# Altium footprint library PcbLib.PcbLib: 15 footprints
Each footprint in its own frame and in the unit in brackets; x right, y up, seen from the top. Pads: shape width x height; smd on the part's side, far side on the other; paste and mask are expansions set on the pad; w line width, h text height; cw(c..) or ccw(c..) is an arc to the next point about the centre after c.
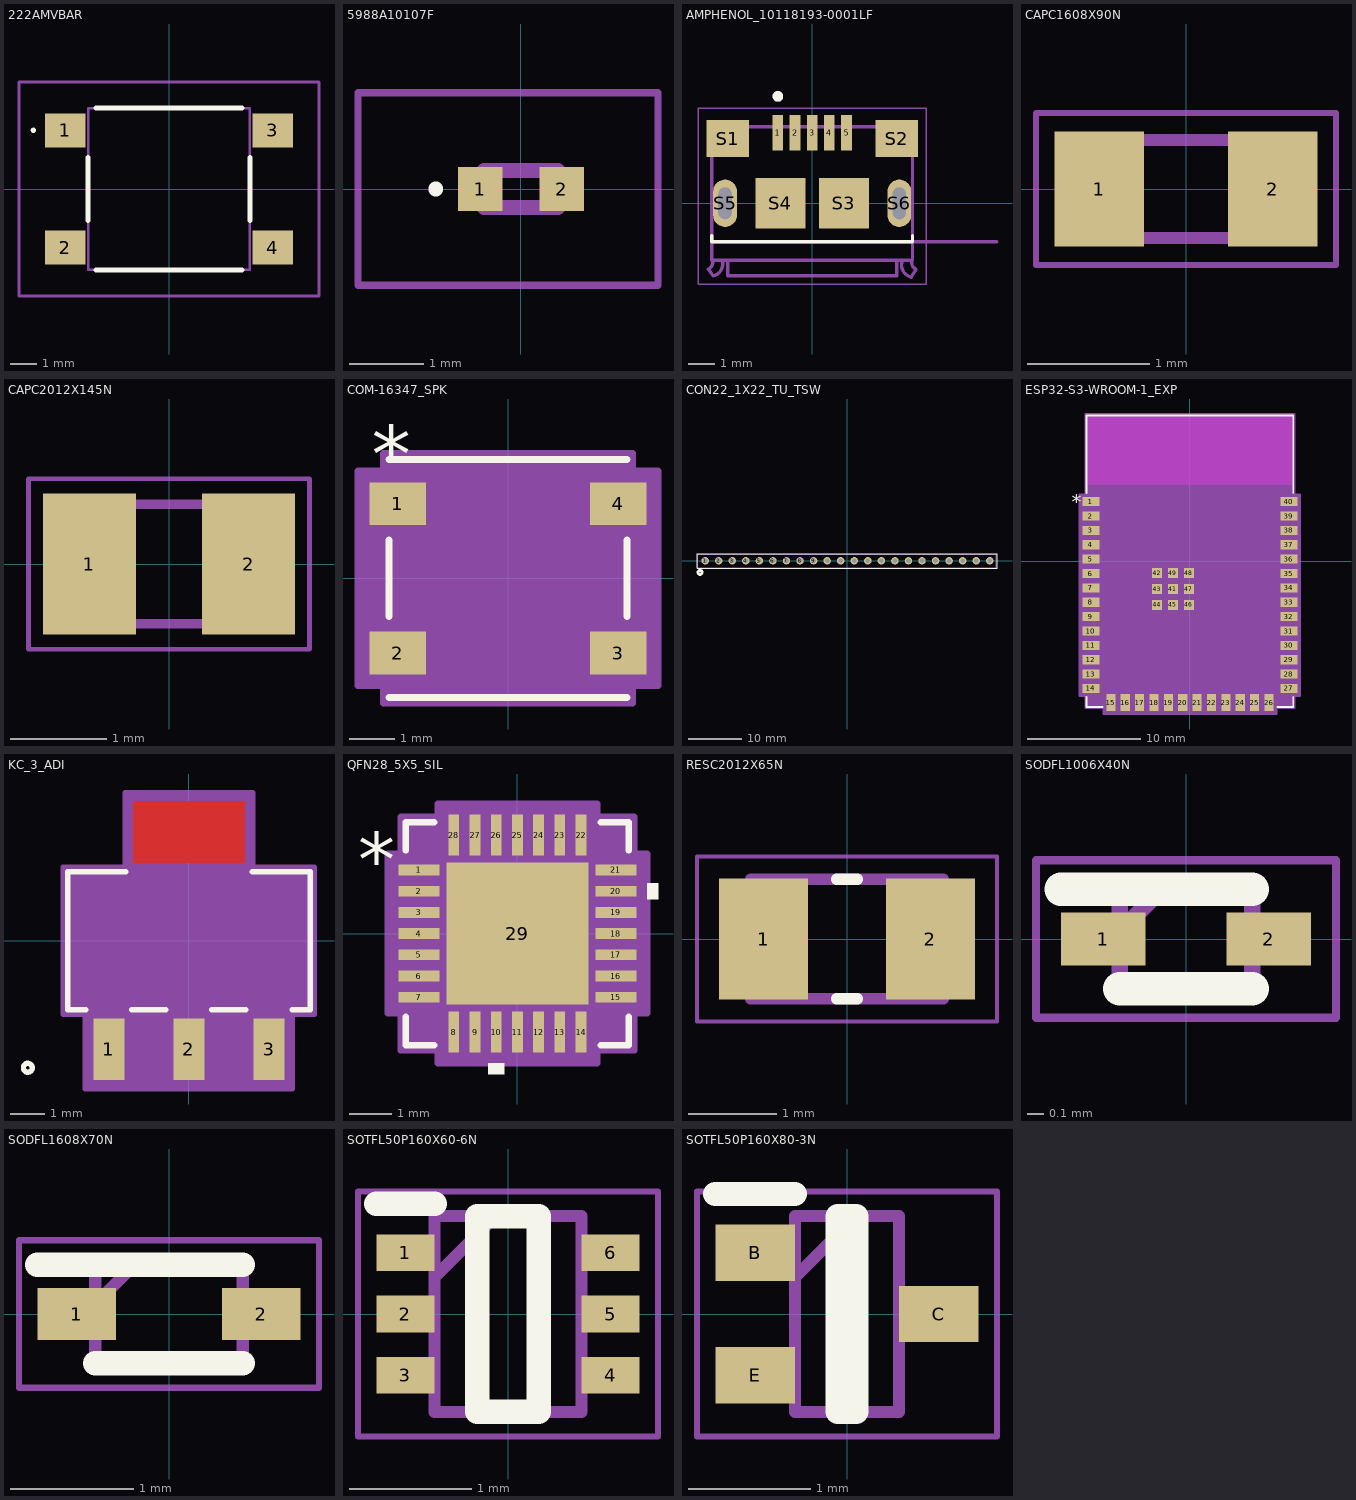
[diagram p0: the footprints below, top view; thin cyan lines are the x and y axes]

## 222AMVBAR [mm]
pads (4):
  rect 1.55x1.3 smd: 1(-3.975,2.25) 2(-3.975,-2.25) 3(3.975,2.25) 4(3.975,-2.25)
Top Overlay:
  lines w0.1: -5.2,2.2 ccw(c-5.2,2.25) -5.2,2.3 ccw(c-5.2,2.25) -5.2,2.2
  lines w0.2: -3.1,-1.2 -3.1,1.2 ; -2.8,-3.1 2.8,-3.1 ; -2.8,3.1 2.8,3.1 ; 3.1,-1.2 3.1,1.2
Mechanical 15:
  lines w0.1: -3.1,-3.1 3.1,-3.1 3.1,3.1 -3.1,3.1 -3.1,-3.1
Bottom Designator:
  lines w0.1: -5.75,-4.1 5.75,-4.1 5.75,4.1 -5.75,4.1 -5.75,-4.1
3D body "SWITCH.stp": height 5, standoff 0, extent -4.5,-3.1 4.5,3.1

## 5988A10107F [mm]
pads (2):
  rect 0.6x0.6 smd: 1(-0.55,0) 2(0.55,0)
Top Overlay:
  lines w0.1: -1.2,0 ccw(c-1.15,0) -1.1,0 ccw(c-1.15,0) -1.2,0
Mechanical 15:
  lines w0.2: -0.5,-0.25 -0.5,0.25 0.5,0.25 0.5,-0.25 -0.5,-0.25
Bottom Designator:
  lines w0.1: -2.2,-1.3 -2.2,1.3 1.85,1.3 1.85,-1.3 -2.2,-1.3
3D body "RED-LED.stp": height 0.7, standoff 0, extent -0.8,-0.4 0.8,0.4

## AMPHENOL_10118193-0001LF [mm]
height 2.55
pads (11):
  rect 0.4x1.35 smd: 1(-1.3,2.675) 2(-0.65,2.675) 3(0,2.675) 4(0.65,2.675) 5(1.3,2.675)
  rect 1.6x1.4 smd: S1(-3.2,2.45) S2(3.2,2.45)
  rect 1.9x1.9 smd: S3(1.2,0) S4(-1.2,0)
  oval 0.9x1.8 hole 0.5 slot 1.2 at 90 deg: S5(-3.3,0) S6(3.3,0)
Top Overlay:
  circle w0.2: c-1.3,4.05 r0.1
  lines w0.127: -3.8,-1.22 -3.8,-1.45 3.8,-1.45 3.8,-1.22
Mechanical 13:
  circle w0.2: c-1.3,4.05 r0.1
  lines w0.127: -3.93,-2.5 -3.75,-2.75 ; -3.93,-2.5 ccw(c-4.065,-2.235) -3.8,-2.1 ; -3.8,-1.45 3.8,-1.45 ; -3.746,-2.749 ccw(c-3.85,-2.3) -3.401,-2.196 ; -3.2,-2.2 -3.2,-2.75 3.2,-2.75 3.2,-2.2 ; 3.401,-2.198 ccw(c3.875,-2.325) 3.748,-2.799 ; 3.75,-2.8 3.93,-2.5 ; 3.8,-2.1 ccw(c4.065,-2.235) 3.93,-2.5 ; 7,-1.45 3.8,-1.45 ; -3.8,-2.1 -3.8,-2.15 3.8,-2.15 3.8,-1.45 ; -3.8,-2.1 -3.8,2.9 3.8,2.9 3.8,-1.45
  text "PCB END" at 4.85,-1.2 h0.41
Mechanical 15:
  lines w0.05: -4.32,-3.066 -4.32,3.6 4.32,3.6 4.32,-3.066 -4.32,-3.066
3D body "step_temp.STEP": height 2.85, standoff -0.75, extent -3.93,-2.76 3.93,2.95

## CAPC1608X90N [mm]
pads (2):
  rect 0.73x0.94 smd: 1(-0.71,0) 2(0.71,0)
Mechanical 15:
  lines w0.1: -0.8,-0.4 -0.8,0.4 0.8,0.4 0.8,-0.4 -0.8,-0.4
Bottom Designator:
  lines w0.05: -1.225,-0.62 -1.225,0.62 1.225,0.62 1.225,-0.62 -1.225,-0.62
3D body "CL10B104KB8NNNC.stp": height 0.9, standoff 0, extent -0.8,-0.4 0.8,0.4

## CAPC2012X145N [mm]
pads (2):
  rect 0.97x1.47 smd: 1(-0.83,0) 2(0.83,0)
Mechanical 15:
  lines w0.1: -1,-0.625 -1,0.625 1,0.625 1,-0.625 -1,-0.625
Bottom Designator:
  lines w0.05: -1.465,-0.89 -1.465,0.89 1.465,0.89 1.465,-0.89 -1.465,-0.89
3D body "CL21A106KAYNNNE.stp": height 1.45, standoff 0, extent -1.127,-0.625 0.873,0.625

## COM-16347_SPK [mil]
pads (4):
  rect 49x37 smd paste+0 mask+0: 1(-96,64.96) 2(-96,-64.96) 3(96,-64.96) 4(96,64.96)
Top Overlay:
  lines w6: -103.5,-103.5 103.5,-103.5 ; -103.5,-33.36 -103.5,33.36 ; -103.5,103.5 103.5,103.5 ; 103.5,-33.36 103.5,33.36
  text "*" at -118.5,83.46 h50
Mechanical 13:
  lines w0: -12,98.5 ccw(c0,98.5) 12,98.5
  lines w1: -106.5,-82.46 -106.5,-47.46 -98.5,-47.46 -98.5,-82.46 -106.5,-82.46 ; -106.5,47.46 -106.5,82.46 -98.5,82.46 -98.5,47.46 -106.5,47.46 ; -98.5,-98.5 98.5,-98.5 98.5,98.5 -98.5,98.5 -98.5,-98.5 ; 98.5,-82.46 98.5,-47.46 106.5,-47.46 106.5,-82.46 98.5,-82.46 ; 98.5,47.46 98.5,82.46 106.5,82.46 106.5,47.46 98.5,47.46
  text "*" at -88.5,51.96 h50
Mechanical 15:
  region: -108.5,-93.46 -130.5,-93.46 -130.5,93.46 -108.5,93.46 -108.5,108.5 108.5,108.5 108.5,93.46 130.5,93.46 130.5,-93.46 108.5,-93.46 108.5,-108.5 -108.5,-108.5
  lines w6: -130.5,-93.46 -130.5,93.46 -108.5,93.46 -108.5,108.5 108.5,108.5 108.5,93.46 130.5,93.46 130.5,-93.46 108.5,-93.46 108.5,-108.5 -108.5,-108.5 -108.5,-93.46 -130.5,-93.46
3D body "COM-16347_SPK.step": height 63.11, standoff 0.11, extent -106.5,-98.5 106.5,98.5

## CON22_1X22_TU_TSW [mil]
pads (22):
  round 55 / inner round 60 / far side round 55 hole 35 paste-99999 mask+0: 1(-1050,0) 2(-950,0) 3(-850,0) 4(-750,0) 5(-650,0) 6(-550,0) 7(-450,0) 8(-350,0) 9(-250,0) 10(-150,0) 11(-50,0) 12(50,0) 13(150,0) 14(250,0) 15(350,0) 16(450,0) 17(550,0) 18(650,0) 19(750,0) 20(850,0) 21(950,0) 22(1050,0)
Top Overlay:
  circle w20: c-1087.6,-85.63 r15
  lines w6: -1110.24,-55.12 1103.35,-55.12 1103.35,53.15 -1110.24,53.15 -1110.24,-55.12
Bottom Overlay:
  circle w20: c-1087.6,-85.63 r15
Mechanical 13:
  circle w0: c-1050,0 r10
  lines w1: -1106.3,-51.18 1099.41,-51.18 1099.41,49.21 -1106.3,49.21 -1106.3,-51.18
3D body "TSW-122-05-T-S.stp": height 82, standoff -348, extent -1106.3,-51.18 1098.7,48.82

## ESP32-S3-WROOM-1_EXP [mil]
pads (49):
  rect 59x32 smd paste+0 mask+0: 1(-344.49,207.09) 2(-344.49,157.09) 3(-344.49,107.09) 4(-344.49,57.09) 5(-344.49,7.09) 6(-344.49,-42.91) 7(-344.49,-92.91) 8(-344.49,-142.91) 9(-344.49,-192.91) 10(-344.49,-242.91) 11(-344.49,-292.91) 12(-344.49,-342.91) 13(-344.49,-392.91) 14(-344.49,-442.91) 27(344.49,-442.91) 28(344.49,-392.91) 29(344.49,-342.91) 30(344.49,-292.91) 31(344.49,-242.91) 32(344.49,-192.91) 33(344.49,-142.91) 34(344.49,-92.91) 35(344.49,-42.91) 36(344.49,7.09) 37(344.49,57.09) 38(344.49,107.09) 39(344.49,157.09) 40(344.49,207.09)
  rect 32x59 smd paste+0 mask+0: 15(-275,-492.13) 16(-225,-492.13) 17(-175,-492.13) 18(-125,-492.13) 19(-75,-492.13) 20(-25,-492.13) 21(25,-492.13) 22(75,-492.13) 23(125,-492.13) 24(175,-492.13) 25(225,-492.13) 26(275,-492.13)
  rect 35x35 smd paste+0 mask+0: 41(-59.06,-96.85) 42(-114.17,-41.73) 43(-114.17,-96.85) 44(-114.17,-151.97) 45(-59.06,-151.97) 46(-3.94,-151.97) 47(-3.94,-96.85) 48(-3.94,-41.73) 49(-59.06,-41.73)
Top Layer keep-out:
  region: 354.5,502 -354.5,502 -354.5,266 354.5,266
Top Overlay:
  lines w6: -359.5,-472.01 -359.5,-507 -304.1,-507 ; -359.5,236.19 -359.5,507 359.5,507 359.5,236.19 ; 304.1,-507 359.5,-507 359.5,-472.01
  text "*" at -411.49,182.09 h50
Mechanical 13:
  lines w1: -354.5,452 -304.5,502 ; -354.5,-502 -354.5,502 354.5,502 354.5,-502 -354.5,-502
  text "*" at -302.49,182.09 h50
Mechanical 15:
  region: 383.99,233.09 364.5,233.09 364.5,512 -364.5,512 -364.5,233.09 -383.99,233.09 -383.99,-468.91 -364.5,-468.91 -364.5,-512 -301,-512 -301,-531.63 301,-531.63 301,-512 364.5,-512 364.5,-468.91 383.99,-468.91
  lines w6: -383.99,-468.91 -364.5,-468.91 -364.5,-512 -301,-512 -301,-531.63 301,-531.63 301,-512 364.5,-512 364.5,-468.91 383.99,-468.91 383.99,233.09 364.5,233.09 364.5,512 -364.5,512 -364.5,233.09 -383.99,233.09 -383.99,-468.91
3D body "ESP32-S3-WROOM-1-N8.step": height 127.95, standoff 0, extent -354.33,-502.95 354.33,500.98

## KC_3_ADI [mil]
pads (3):
  rect 35x69.5 smd paste+0 mask+0: 1(-90.55,-122.75) 2(0,-122.75) 3(90.55,-122.75)
Top Layer:
  region: 63,88 63,157.5 -63,157.5 -63,88
Top Overlay:
  circle w6: c-182,-143.5 r5
  lines w6: -116.51,-78 -137,-78 -137,78 -71.46,78 ; -64.59,-78 -25.96,-78 ; 25.96,-78 64.59,-78 ; 71.46,78 137,78 137,-78 116.51,-78
Top Paste:
  region: 63,88 63,157.5 -63,157.5 -63,88
Top Solder:
  region: 64,74 64,171.5 -64,171.5 -64,74
Mechanical 13:
  circle w0: c-122,-63 r5
  lines w1: -132,-73 132,-73 132,73 -132,73 -132,-73 ; -107.05,-143.5 -107.05,-73 -74.05,-73 -74.05,-143.5 -107.05,-143.5 ; -62,73 62,73 62,143.5 -62,143.5 -62,73 ; -16.5,-143.5 -16.5,-73 16.5,-73 16.5,-143.5 -16.5,-143.5 ; 74.05,-143.5 74.05,-73 107.05,-73 107.05,-143.5 74.05,-143.5
Mechanical 15:
  region: -142,-83 -142,83 -72,83 -72,167.5 72,167.5 72,83 142,83 142,-83 117.05,-83 117.05,-167.5 -117.05,-167.5 -117.05,-83
  lines w6: -142,-83 -142,83 -72,83 -72,167.5 72,167.5 72,83 142,83 142,-83 117.05,-83 117.05,-167.5 -117.05,-167.5 -117.05,-83 -142,-83
3D body "KC_3_ADI.step": height 67.09, standoff 0, extent -132.01,-143.5 132.01,143.5

## QFN28_5X5_SIL [mil]
pads (29):
  rect 38x10 smd paste+0 mask+0: 1(-91.5,59.06) 2(-91.5,39.37) 3(-91.5,19.68) 4(-91.5,0) 5(-91.5,-19.68) 6(-91.5,-39.37) 7(-91.5,-59.06) 15(91.5,-59.06) 16(91.5,-39.37) 17(91.5,-19.68) 18(91.5,0) 19(91.5,19.68) 20(91.5,39.37) 21(91.5,59.06)
  rect 10x38 smd paste+0 mask+0: 8(-59.06,-91.5) 9(-39.37,-91.5) 10(-19.68,-91.5) 11(0,-91.5) 12(19.68,-91.5) 13(39.37,-91.5) 14(59.06,-91.5) 22(59.06,91.5) 23(39.37,91.5) 24(19.68,91.5) 25(0,91.5) 26(-19.68,91.5) 27(-39.37,91.5) 28(-59.06,91.5)
  rect 132x132 smd paste-66 mask+0: 29(0,0)
Top Overlay:
  region: -12.19,-120.5 -27.18,-120.5 -27.18,-130.5 -12.19,-130.5
  region: 120.5,46.87 130.5,46.87 130.5,31.87 120.5,31.87
  lines w6: -103.5,-77.16 -103.5,-103.5 -77.16,-103.5 ; -103.5,77.16 -103.5,103.5 -77.16,103.5 ; 77.16,-103.5 103.5,-103.5 103.5,-77.16 ; 77.16,103.5 103.5,103.5 103.5,77.16
  text "*" at -148,43.9 h50
Top Paste:
  region: -3.94,62.06 -62.06,62.06 -62.06,3.94 -3.94,3.94
  region: -3.94,-3.94 -62.06,-3.94 -62.06,-62.06 -3.94,-62.06
  region: 62.06,62.06 3.94,62.06 3.94,3.94 62.06,3.94
  region: 62.06,-3.94 3.94,-3.94 3.94,-62.06 62.06,-62.06
Mechanical 13:
  lines w1: -98.5,48.5 -48.5,98.5 ; -98.5,-98.5 98.5,-98.5 98.5,98.5 -98.5,98.5 -98.5,-98.5 ; -98.5,-65.06 -98.5,-53.06 -98.5,-65.06 ; -98.5,-45.37 -98.5,-33.37 -98.5,-45.37 ; -98.5,-25.68 -98.5,-13.69 -98.5,-25.68 ; -98.5,-6 -98.5,6 -98.5,-6 ; -98.5,13.69 -98.5,25.68 -98.5,13.69 ; -98.5,33.37 -98.5,45.37 -98.5,33.37 ; -98.5,53.06 -98.5,65.06 -98.5,53.06 ; -65.06,-98.5 -53.06,-98.5 -65.06,-98.5 ; -65.06,98.5 -53.06,98.5 -65.06,98.5 ; -45.37,-98.5 -33.37,-98.5 -45.37,-98.5 ; -45.37,98.5 -33.37,98.5 -45.37,98.5 ; -25.68,-98.5 -13.69,-98.5 -25.68,-98.5 ; -25.68,98.5 -13.69,98.5 -25.68,98.5 ; -6,-98.5 6,-98.5 -6,-98.5 ; -6,98.5 6,98.5 -6,98.5 ; 13.69,-98.5 25.68,-98.5 13.69,-98.5 ; 13.69,98.5 25.68,98.5 13.69,98.5 ; 33.37,-98.5 45.37,-98.5 33.37,-98.5 ; 33.37,98.5 45.37,98.5 33.37,98.5 ; 53.06,-98.5 65.06,-98.5 53.06,-98.5 ; 53.06,98.5 65.06,98.5 53.06,98.5 ; 98.5,-65.06 98.5,-53.06 98.5,-65.06 ; 98.5,-45.37 98.5,-33.37 98.5,-45.37 ; 98.5,-25.68 98.5,-13.69 98.5,-25.68 ; 98.5,-6 98.5,6 98.5,-6 ; 98.5,13.69 98.5,25.68 98.5,13.69 ; 98.5,33.37 98.5,45.37 98.5,33.37 ; 98.5,53.06 98.5,65.06 98.5,53.06
  text "*" at -85,43.9 h50
Mechanical 15:
  region: -74.06,-108.5 -108.5,-108.5 -108.5,-74.06 -120.5,-74.06 -120.5,74.06 -108.5,74.06 -108.5,108.5 -74.06,108.5 -74.06,120.5 74.06,120.5 74.06,108.5 108.5,108.5 108.5,74.06 120.5,74.06 120.5,-74.06 108.5,-74.06 108.5,-108.5 74.06,-108.5 74.06,-120.5 -74.06,-120.5
  lines w6: -120.5,-74.06 -108.5,-74.06 -108.5,-108.5 -74.06,-108.5 -74.06,-120.5 74.06,-120.5 74.06,-108.5 108.5,-108.5 108.5,-74.06 120.5,-74.06 120.5,74.06 108.5,74.06 108.5,108.5 74.06,108.5 74.06,120.5 -74.06,120.5 -74.06,108.5 -108.5,108.5 -108.5,74.06 -120.5,74.06 -120.5,-74.06
3D body "QFN28_5X5_SIL.step": height 32.09, standoff 0, extent -98.5,-98.5 98.5,98.5

## RESC2012X65N [mm]
pads (2):
  rect 1.01x1.38 smd: 1(-0.95,0) 2(0.95,0)
Top Overlay:
  lines w0.127: -0.12,-0.68 0.12,-0.68 ; -0.12,0.68 0.12,0.68
Mechanical 13:
  lines w0.127: -1.1,-0.68 1.1,-0.68 1.1,0.68 -1.1,0.68 -1.1,-0.68
Mechanical 15:
  lines w0.05: -1.708,-0.94 1.708,-0.94 1.708,0.94 -1.708,0.94 -1.708,-0.94
3D body "RMCF0805FT3K40.STEP": height 0.65, standoff 0, extent -1.025,-0.625 0.975,0.625

## SODFL1006X40N [mm]
pads (2):
  rect 0.51x0.32 smd: 1(-0.5,0) 2(0.5,0)
Top Overlay:
  lines w0.2: -0.755,0.3 0.4,0.3 ; -0.4,-0.3 0.4,-0.3
Mechanical 15:
  lines w0.1: -0.4,0.045 -0.145,0.3 ; -0.4,-0.3 0.4,-0.3 0.4,0.3 -0.4,0.3 -0.4,-0.3
Bottom Designator:
  lines w0.05: -0.905,-0.475 0.905,-0.475 0.905,0.475 -0.905,0.475 -0.905,-0.475
3D body "TVS.stp": height 0.4, standoff 0, extent -0.5,-0.3 0.5,0.3

## SODFL1608X70N [mm]
pads (2):
  rect 0.64x0.42 smd: 1(-0.75,0) 2(0.75,0)
Top Overlay:
  lines w0.2: -1.07,0.4 0.6,0.4 ; -0.6,-0.4 0.6,-0.4
Mechanical 15:
  lines w0.1: -0.6,0.08 -0.28,0.4 ; -0.6,-0.4 0.6,-0.4 0.6,0.4 -0.6,0.4 -0.6,-0.4
Bottom Designator:
  lines w0.05: -1.22,-0.6 1.22,-0.6 1.22,0.6 -1.22,0.6 -1.22,-0.6
3D body "SINGLE_DIODE.stp": height 0.7, standoff 0, extent -0.8,-0.4 0.8,0.4

## SOTFL50P160X60-6N [mm]
pads (6):
  rect 0.475x0.3 smd: 1(-0.838,0.5) 2(-0.838,0) 3(-0.838,-0.5) 4(0.838,-0.5) 5(0.838,0) 6(0.838,0.5)
Top Overlay:
  lines w0.2: -1.075,0.9 -0.6,0.9 ; -0.25,-0.8 -0.25,0.8 0.25,0.8 0.25,-0.8 -0.25,-0.8
Mechanical 15:
  lines w0.1: -0.6,0.3 -0.1,0.8 ; -0.6,-0.8 -0.6,0.8 0.6,0.8 0.6,-0.8 -0.6,-0.8
Bottom Designator:
  lines w0.05: -1.225,-1 -1.225,1 1.225,1 1.225,-1 -1.225,-1
3D body "LEVEL_SHIFTER.stp": height 0.6, standoff 0, extent -0.8,-0.8 0.8,0.8

## SOTFL50P160X80-3N [mm]
pads (3):
  rect 0.65x0.46 smd: B(-0.75,0.5) C(0.75,0) E(-0.75,-0.5)
Top Overlay:
  lines w0.2: -1.075,0.98 -0.425,0.98 ; -0.075,-0.8 -0.075,0.8 0.075,0.8 0.075,-0.8 -0.075,-0.8
Mechanical 15:
  lines w0.1: -0.425,0.3 0.075,0.8 ; -0.425,-0.8 -0.425,0.8 0.425,0.8 0.425,-0.8 -0.425,-0.8
Bottom Designator:
  lines w0.05: -1.225,-1 -1.225,1 1.225,1 1.225,-1 -1.225,-1
3D body "BJT.stp": height 0.8, standoff 0, extent -0.8,-0.8 0.8,0.8